# Altium footprint library Connectors.PcbLib: 15 footprints
Each footprint in its own frame and in the unit in brackets; x right, y up, seen from the top. Pads: shape width x height; smd on the part's side, far side on the other; paste and mask are expansions set on the pad; w line width, h text height; cw(c..) or ccw(c..) is an arc to the next point about the centre after c.
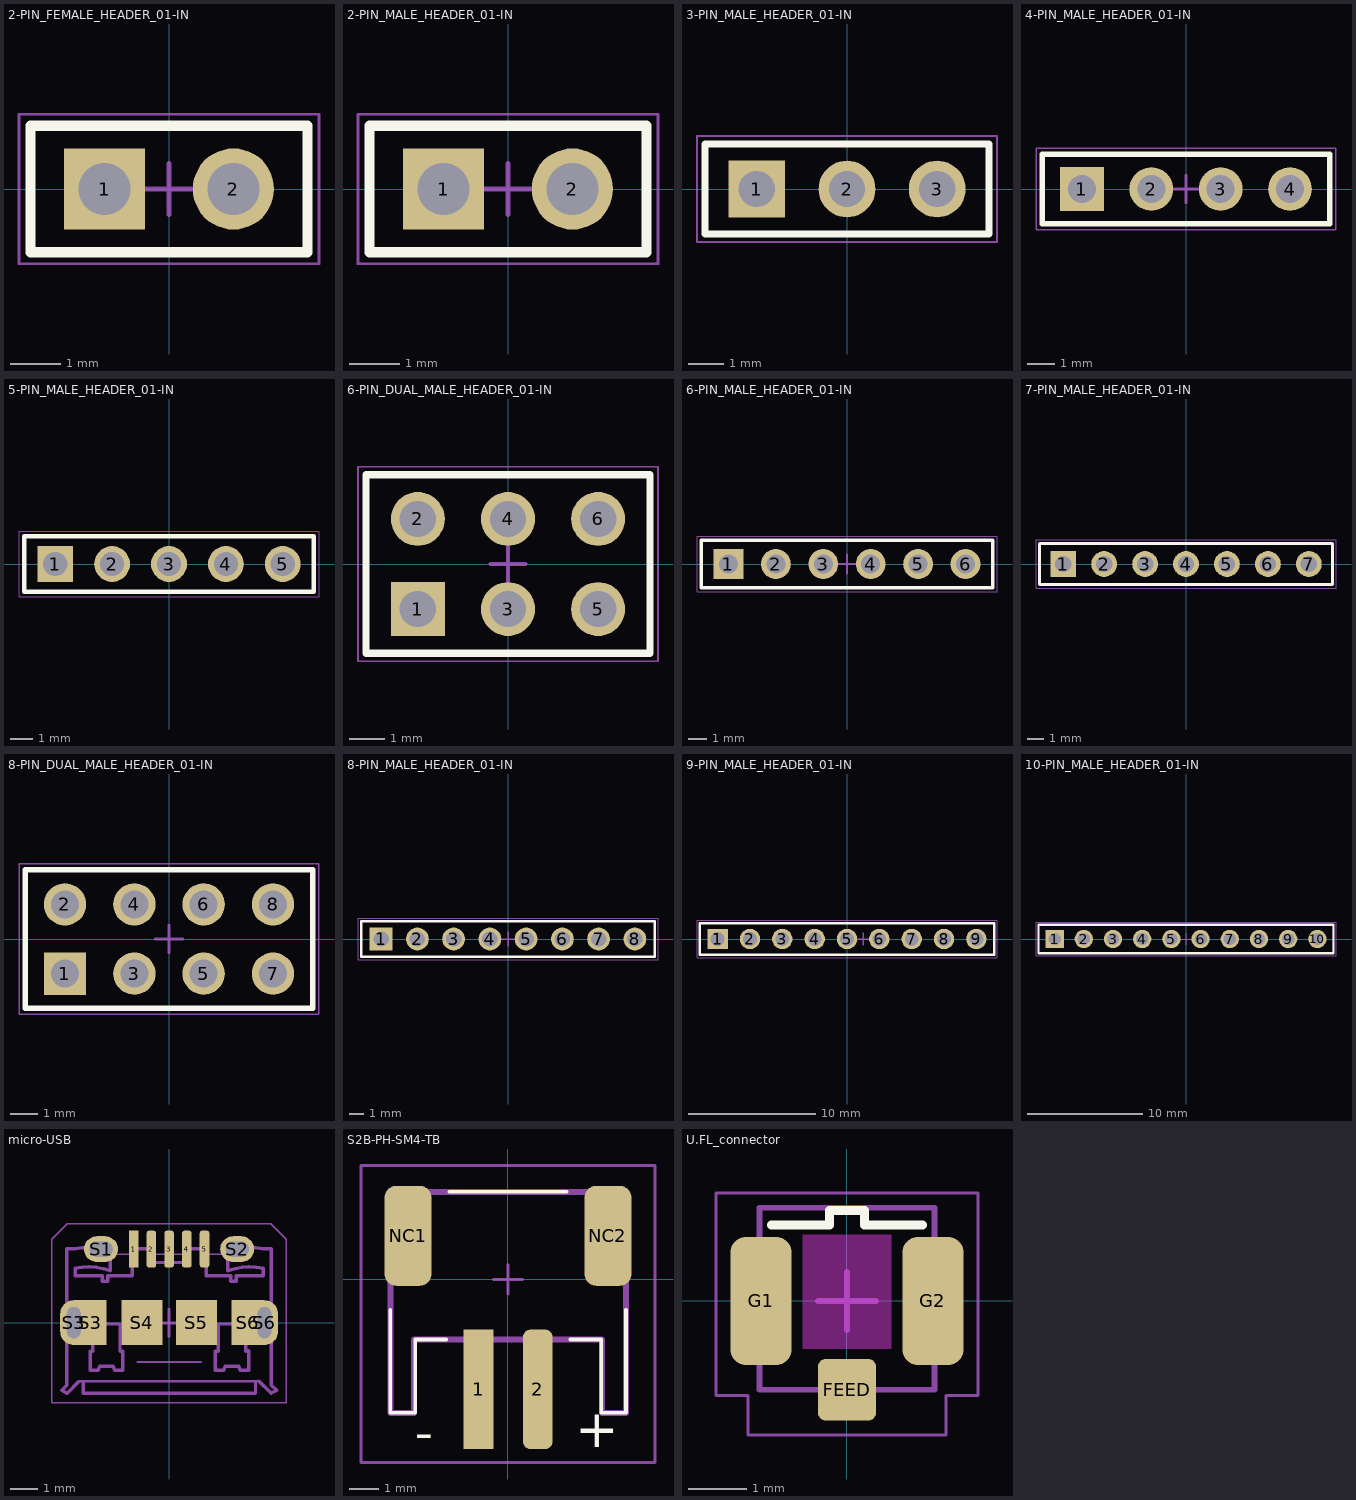
[diagram p0: the footprints below, top view; thin cyan lines are the x and y axes]

## 2-PIN_FEMALE_HEADER_01-IN [mm] "Terminal Assembly, 1x2 Pins, Vertical, 2.54mm Pitch, Male"
height 6.02
pads (2):
  rect 1.6x1.6 hole 1.02: 1(-1.27,0)
  round 1.6 hole 1.02: 2(1.27,0)
Top Overlay:
  lines w0.2: -2.73,-1.245 2.73,-1.245 2.73,1.245 -2.73,1.245 -2.73,-1.245
Mechanical 13:
  lines w0.1: -2.73,1.245 2.73,1.245 2.73,-1.245 -2.73,-1.245 -2.73,1.245
  text ".Designator" at -1.524,-0.635 h1.3
Mechanical 15:
  lines w0.05: -2.955,-1.47 2.955,-1.47 2.955,1.47 -2.955,1.47 -2.955,-1.47
  lines w0.1: -0.5,0 0.5,0 ; 0,-0.5 0,0.5
3D body "female_header_a-bl254-eg-g02d.STEP": height 8.53, standoff -3.17, extent -2.665,-1.25 2.665,1.25

## 2-PIN_MALE_HEADER_01-IN [mm] "Terminal Assembly, 1x2 Pins, Vertical, 2.54mm Pitch, Male"
height 6.02
pads (2):
  rect 1.6x1.6 hole 1.02: 1(-1.27,0)
  round 1.6 hole 1.02: 2(1.27,0)
Top Overlay:
  lines w0.2: -2.73,-1.245 -2.73,1.245 2.73,1.245 2.73,-1.245 -2.73,-1.245
Mechanical 13:
  lines w0.1: -2.73,1.245 -2.73,-1.245 2.73,-1.245 2.73,1.245 -2.73,1.245
  text ".Designator" at -1.524,-0.635 h1.3
Mechanical 15:
  lines w0.05: -2.955,-1.47 -2.955,1.47 2.955,1.47 2.955,-1.47 -2.955,-1.47
  lines w0.1: -0.5,0 0.5,0 ; 0,-0.5 0,0.5
3D body "User Library-Header_Male_2Pin.STEP": height 8.54, standoff -3, extent -2.54,-1.22 2.54,1.27

## 3-PIN_MALE_HEADER_01-IN [mm] ".025 SQ Post Terminal Strip Assembly, 1x3 Pins, Vertical, 2.54mm Pitch, Male"
height 8.58
pads (3):
  rect 1.6x1.6 hole 1.02: 1(-2.54,0)
  round 1.6 hole 1.02: 2(0,0) 3(2.54,0)
Top Overlay:
  lines w0.2: -4,-1.27 4,-1.27 4,1.27 -4,1.27 -4,-1.27
Mechanical 13:
  lines w0.1: -4,-1.27 4,-1.27 4,1.27 -4,1.27 -4,-1.27
  text ".Designator" at -1.524,-0.635 h1.3
Mechanical 15:
  lines w0.05: -4.225,-1.495 4.225,-1.495 4.225,1.495 -4.225,1.495 -4.225,-1.495
  lines w0.1: -0.5,0 0.5,0 ; 0,-0.5 0,0.5
3D body "User Library-Header_Male_3Pin.STEP": height 8.54, standoff -3, extent -3.81,-1.27 3.81,1.22

## 4-PIN_MALE_HEADER_01-IN [mm] "Assembly .025\" [.64] SQ Post Terminal Strip, 1x4 Pins, Vertical, 2.54mm Pitch, Male"
height 7.061
pads (4):
  rect 1.6x1.6 hole 1.02: 1(-3.81,0)
  round 1.6 hole 1.02: 2(-1.27,0) 3(1.27,0) 4(3.81,0)
Top Overlay:
  lines w0.2: -5.27,-1.27 5.27,-1.27 5.27,1.27 -5.27,1.27 -5.27,-1.27
Mechanical 13:
  lines w0.1: -5.27,-1.27 5.27,-1.27 5.27,1.27 -5.27,1.27 -5.27,-1.27
  text ".Designator" at -1.524,-0.635 h1.3
Mechanical 15:
  lines w0.05: -5.495,-1.495 5.495,-1.495 5.495,1.495 -5.495,1.495 -5.495,-1.495
  lines w0.1: -0.5,0 0.5,0 ; 0,-0.5 0,0.5
3D body "User Library-Header_Male_4Pin.STEP": height 8.54, standoff -3, extent -5.08,-1.27 5.08,1.22

## 5-PIN_MALE_HEADER_01-IN [mm] "Press Fit Socket Assembly, 1x5 Pins, Vertical, 2.54mm Pitch, Male"
height 10.92
pads (5):
  rect 1.6x1.6 hole 1.081: 1(-5.08,0)
  round 1.6 hole 1.081: 2(-2.54,0) 3(0,0) 4(2.54,0) 5(5.08,0)
Top Overlay:
  lines w0.2: -6.475,-1.245 -6.475,1.245 6.475,1.245 6.475,-1.245 -6.475,-1.245
Mechanical 13:
  lines w0.1: -6.475,-1.245 -6.475,1.245 6.475,1.245 6.475,-1.245 -6.475,-1.245
  text ".Designator" at -1.524,-0.635 h1.3
Mechanical 15:
  lines w0.05: -6.7,-1.47 -6.7,1.47 6.7,1.47 6.7,-1.47 -6.7,-1.47
  lines w0.1: -0.5,0 0.5,0 ; 0,-0.5 0,0.5
3D body "User Library-Header_Male_5Pin.STEP": height 8.54, standoff -3, extent -6.35,-1.27 6.35,1.22

## 6-PIN_DUAL_MALE_HEADER_01-IN [mm] "Terminal Assembly, 2x3 Pins, Vertical, 2.54mm Pitch, Male"
height 6.223
pads (6):
  rect 1.52x1.52 hole 1.02: 1(-2.54,-1.27)
  round 1.52 hole 1.02: 2(-2.54,1.27) 3(0,-1.27) 4(0,1.27) 5(2.54,-1.27) 6(2.54,1.27)
Top Overlay:
  lines w0.2: -4,-2.515 4,-2.515 4,2.515 -4,2.515 -4,-2.515
Mechanical 13:
  lines w0.1: -4,-2.515 -4,2.515 4,2.515 4,-2.515 -4,-2.515
  text ".Designator" at -1.524,-0.635 h1.3
Mechanical 15:
  lines w0.05: -4.225,-2.74 -4.225,2.74 4.225,2.74 4.225,-2.74 -4.225,-2.74
  lines w0.1: -0.5,0 0.5,0 ; 0,-0.5 0,0.5
3D body "pin_header_awl254-dg-g06d.stp": height 8.5, standoff -3, extent -3.81,-2.54 3.81,2.54

## 6-PIN_MALE_HEADER_01-IN [mm] "Assembly .025\" [.64] SQ Post Terminal Strip, 1x6 Pins, Vertical, 2.54mm Pitch, Male"
height 16.459
pads (6):
  rect 1.6x1.6 hole 1.02: 1(-6.35,0)
  round 1.6 hole 1.02: 2(-3.81,0) 3(-1.27,0) 4(1.27,0) 5(3.81,0) 6(6.35,0)
Top Overlay:
  lines w0.2: -7.81,-1.27 -7.81,1.27 7.81,1.27 7.81,-1.27 -7.81,-1.27
Mechanical 13:
  lines w0.1: -7.81,-1.27 -7.81,1.27 7.81,1.27 7.81,-1.27 -7.81,-1.27
  text ".Designator" at -1.524,-0.635 h1.3
Mechanical 15:
  lines w0.05: -8.035,-1.495 -8.035,1.495 8.035,1.495 8.035,-1.495 -8.035,-1.495
  lines w0.1: -0.5,0 0.5,0 ; 0,-0.5 0,0.5
3D body "User Library-Header_Male_6Pin.STEP": height 8.54, standoff -3, extent -7.62,-1.27 7.62,1.22

## 7-PIN_MALE_HEADER_01-IN [mm] ".025 SQ Post Terminal Strip Assembly, 1x7 Pins, Vertical, 2.54mm Pitch, Male"
height 5.41
pads (7):
  rect 1.6x1.6 hole 1.02: 1(-7.62,0)
  round 1.6 hole 1.02: 2(-5.08,0) 3(-2.54,0) 4(0,0) 5(2.54,0) 6(5.08,0) 7(7.62,0)
Top Overlay:
  lines w0.2: -9.08,-1.27 -9.08,1.27 9.08,1.27 9.08,-1.27 -9.08,-1.27
Mechanical 13:
  lines w0.1: -9.08,-1.27 -9.08,1.27 9.08,1.27 9.08,-1.27 -9.08,-1.27
  text ".Designator" at -1.524,-0.635 h1.3
Mechanical 15:
  lines w0.05: -9.305,-1.495 -9.305,1.495 9.305,1.495 9.305,-1.495 -9.305,-1.495
  lines w0.1: -0.5,0 0.5,0 ; 0,-0.5 0,0.5
3D body "User Library-Header_Male_7Pin.STEP": height 8.54, standoff -3, extent -8.89,-1.27 8.89,1.22

## 8-PIN_DUAL_MALE_HEADER_01-IN [mm] "Assembly .025\" [.64] SQ Post Terminal Strip, 2x4 Pins, Vertical, 2.54mm Pitch, Male"
height 2.896
pads (8):
  rect 1.55x1.55 hole 1.02: 1(-3.81,-1.27)
  round 1.55 hole 1.02: 2(-3.81,1.27) 3(-1.27,-1.27) 4(-1.27,1.27) 5(1.27,-1.27) 6(1.27,1.27) 7(3.81,-1.27) 8(3.81,1.27)
Top Overlay:
  lines w0.2: -5.27,-2.54 5.27,-2.54 5.27,2.54 -5.27,2.54 -5.27,-2.54
Mechanical 13:
  lines w0.1: -5.27,-2.54 5.27,-2.54 5.27,2.54 -5.27,2.54 -5.27,-2.54
  text ".Designator" at -1.524,-0.635 h1.3
Mechanical 15:
  lines w0.05: -5.495,-2.765 5.495,-2.765 5.495,2.765 -5.495,2.765 -5.495,-2.765
  lines w0.1: -0.5,0 0.5,0 ; 0,-0.5 0,0.5
3D body "pin_header_awl254-dg-g08d.stp": height 8.5, standoff -3, extent -5.08,-2.54 5.08,2.54

## 8-PIN_MALE_HEADER_01-IN [mm] "Press Fit Socket Assembly, 1x8 Pins, Vertical, 2.54mm Pitch, Male"
height 10.92
pads (8):
  rect 1.6x1.6 hole 1.081: 1(-8.89,0)
  round 1.6 hole 1.081: 2(-6.35,0) 3(-3.81,0) 4(-1.27,0) 5(1.27,0) 6(3.81,0) 7(6.35,0) 8(8.89,0)
Top Overlay:
  lines w0.2: -10.285,-1.245 10.285,-1.245 10.285,1.245 -10.285,1.245 -10.285,-1.245
Mechanical 13:
  lines w0.1: -10.285,-1.245 10.285,-1.245 10.285,1.245 -10.285,1.245 -10.285,-1.245
  text ".Designator" at -1.524,-0.635 h1.3
Mechanical 15:
  lines w0.05: -10.51,-1.47 10.51,-1.47 10.51,1.47 -10.51,1.47 -10.51,-1.47
  lines w0.1: -0.5,0 0.5,0 ; 0,-0.5 0,0.5
3D body "User Library-Header_Male_8Pin.STEP": height 8.54, standoff -3, extent -10.16,-1.27 10.16,1.22

## 9-PIN_MALE_HEADER_01-IN [mm] "Press Fit Socket Assembly, 1x10 Pins, Vertical, 2.54mm Pitch, Male"
height 16
pads (9):
  rect 1.6x1.6 hole 1.081: 1(-10.16,0)
  round 1.6 hole 1.081: 2(-7.62,0) 3(-5.08,0) 4(-2.54,0) 5(0,0) 6(2.54,0) 7(5.08,0) 8(7.62,0) 9(10.16,0)
Top Overlay:
  lines w0.2: -11.555,-1.245 -11.555,1.245 11.555,1.245 11.555,-1.245 -11.555,-1.245
Mechanical 13:
  lines w0.1: -11.555,-1.245 -11.555,1.245 11.555,1.245 11.555,-1.245 -11.555,-1.245
  text ".Designator" at -0.254,-0.635 h1.3
Mechanical 15:
  lines w0.05: -11.78,-1.47 -11.78,1.47 11.78,1.47 11.78,-1.47 -11.78,-1.47
  lines w0.1: 0.77,0 1.77,0 ; 1.27,-0.5 1.27,0.5
3D body "User Library-Header_Male_9Pin.STEP": height 8.54, standoff -3, extent -11.43,-1.27 11.43,1.22

## 10-PIN_MALE_HEADER_01-IN [mm] "Press Fit Socket Assembly, 1x10 Pins, Vertical, 2.54mm Pitch, Male"
height 16
pads (10):
  rect 1.6x1.6 hole 1.081: 1(-11.43,0)
  round 1.6 hole 1.081: 2(-8.89,0) 3(-6.35,0) 4(-3.81,0) 5(-1.27,0) 6(1.27,0) 7(3.81,0) 8(6.35,0) 9(8.89,0) 10(11.43,0)
Top Overlay:
  lines w0.2: -12.825,-1.245 12.825,-1.245 12.825,1.245 -12.825,1.245 -12.825,-1.245
Mechanical 13:
  lines w0.1: -12.825,-1.245 12.825,-1.245 12.825,1.245 -12.825,1.245 -12.825,-1.245
  text ".Designator" at -1.524,-0.635 h1.3
Mechanical 15:
  lines w0.05: -13.05,-1.47 13.05,-1.47 13.05,1.47 -13.05,1.47 -13.05,-1.47
  lines w0.1: -0.5,0 0.5,0 ; 0,-0.5 0,0.5
3D body "User Library-Header_Male_10Pin.STEP": height 8.54, standoff -3, extent -12.7,-1.27 12.7,1.22

## micro-USB [mm] "microUSB paste-in-pad"
height 3
pads (13):
  rect 0.35x1.35 smd mask+0.05: 1(-1.3,2.7)
  rrect50% 0.35x1.35 smd mask+0.05: 2(-0.65,2.7) 3(0,2.7) 4(0.65,2.7) 5(1.3,2.7)
  oval 1.25x0.95 hole 0.55 slot 0.85 at 0 deg mask+0.076: S1(-2.5,2.7) S2(2.5,2.7)
  rrect100% 1x1.65 hole 0.5 slot 1.15 at 90 deg mask+0.076: S3(-3.5,0) S6(3.5,0)
  rect 1.2x1.65 smd mask+0.076: S3(-2.896,0) S6(2.896,0)
  rect 1.5x1.65 smd mask+0.076: S4(-1,0) S5(1,0)
Top Paste:
  region: -3,0.325 -2.993,0.432 -3.061,0.635 -3.201,0.797 -3.393,0.893 -3.5,0.9 -3.614,0.9 -3.826,0.812 -3.987,0.651 -4.075,0.439 -4.075,0.325 -4.075,-0.325 -4.075,-0.439 -3.987,-0.651 -3.826,-0.812 -3.614,-0.9 -3.5,-0.9 -3.393,-0.893 -3.201,-0.797 -3.061,-0.635 -2.993,-0.432 -3,-0.325
  region: -3.2,2.675 -3.2,2.725 -3.2,2.829 -3.12,3.022 -2.972,3.17 -2.779,3.25 -2.675,3.25 -2.325,3.25 -2.221,3.25 -2.028,3.17 -1.88,3.022 -1.8,2.829 -1.8,2.725 -1.8,2.675 -1.8,2.571 -1.88,2.378 -2.028,2.23 -2.221,2.15 -2.325,2.15 -2.675,2.15 -2.779,2.15 -2.972,2.23 -3.12,2.378 -3.2,2.571
  region: 1.8,2.675 1.8,2.725 1.8,2.829 1.88,3.022 2.028,3.17 2.221,3.25 2.325,3.25 2.675,3.25 2.779,3.25 2.972,3.17 3.12,3.022 3.2,2.829 3.2,2.725 3.2,2.675 3.2,2.571 3.12,2.378 2.972,2.23 2.779,2.15 2.675,2.15 2.325,2.15 2.221,2.15 2.028,2.23 1.88,2.378 1.8,2.571
  region: 3,-0.325 2.993,-0.432 3.061,-0.635 3.201,-0.797 3.393,-0.893 3.5,-0.9 3.614,-0.9 3.826,-0.812 3.987,-0.651 4.075,-0.439 4.075,-0.325 4.075,0.325 4.075,0.439 3.987,0.651 3.826,0.812 3.614,0.9 3.5,0.9 3.393,0.893 3.201,0.797 3.061,0.635 2.993,0.432 3,0.325
Mechanical 13:
  lines w0.051: -2.153,2.513 -1.353,2.513 ; -0.653,2.513 0.658,2.513 ; 1.369,2.513 2.156,2.513
  lines w0.076: -1.153,-1.45 1.166,-1.45
  lines w0.102: -3.3,-2.15 3.3,-2.15
  lines w0.127: -3.314,-2.161 -3.744,-2.591 -3.944,-2.491 -3.753,-2.3 -3.753,2.716 -3.453,2.716 cw(c-2.992,0.239) -2.153,2.614 -2.153,2.513 -2.153,1.903 ccw(c-2.992,-0.472) -3.453,2.005 -3.453,1.725 -2.453,1.725 -2.453,1.522 -2.253,1.522 -2.253,1.725 -1.353,1.725 -1.353,2.513 -1.353,2.716 -0.653,2.716 -0.653,2.513 -0.653,2.208 0.658,2.208 0.658,2.513 0.658,2.716 1.369,2.716 1.369,2.513 1.369,1.725 2.258,1.725 2.258,1.522 2.461,1.522 2.461,1.725 3.452,1.725 3.452,2.005 ccw(c2.994,-0.464) 2.156,1.903 2.156,2.513 2.156,2.614 cw(c2.994,0.248) 3.452,2.716 3.75,2.716 3.75,-2.293 3.949,-2.489 3.745,-2.589 3.3,-2.15 ; -3.153,-2.175 -3.153,-2.6 3.172,-2.6 3.172,-2.175 ; 2.817,-1.05 2.817,-0.05 1.801,-0.05 1.801,-1.05 1.699,-1.05 1.699,-1.75 2.004,-1.75 2.055,-1.6 2.563,-1.6 2.614,-1.75 2.918,-1.75 2.918,-1.05 ; 2.817,-1.025 2.918,-1.025 ; -2.903,-1.75 -2.903,-1.05 -2.803,-1.05 -2.803,-0.05 -1.803,-0.05 -1.803,-1.05 -1.703,-1.05 -1.703,-1.75 -2.003,-1.75 -2.053,-1.6 -2.553,-1.6 -2.603,-1.75 -2.903,-1.75
  text "pcb edge" at -1.125,-1.35 h0.63
  text ".Designator" at -1.4,0.1 h1.1
Mechanical 15:
  lines w0.05: -4.3,-2.95 4.3,-2.95 4.3,3.066 3.741,3.625 -3.741,3.625 -4.3,3.066 -4.3,-2.95
  lines w0.1: -0.5,-0.012 0.5,-0.012 ; 0,-0.512 0,0.488
3D body "User Library-MicroUSB-B_Molex_105017-0001.step": height 2.71, standoff -0.6, extent -4.102,-2.58 4.098,2.85

## S2B-PH-SM4-TB [mil]
pads (4):
  rect 40x160 smd: 1(-39.44,-147.2)
  rrect50% 40x160 smd: 2(39.93,-147.2)
  rrect50% 63x134 smd: NC1(-133.93,58.46) NC2(133.93,58.46)
Top Overlay:
  lines w5: -157.55,-40.43 -157.55,-178.7 -124.09,-178.7 -124.09,-80.28 -82.68,-80.28 ; -78.74,117.46 78.74,117.46 ; 83.52,-80.28 124.93,-80.28 124.93,-178.7 157.93,-178.7 157.93,-40.43
  text "-" at -125,-245 h86.8
  text "+" at 89.93,-241.54 h86.8
Mechanical 13:
  lines w8: -157.55,-178.7 -126.06,-178.7 -126.06,-80.28 125.93,-80.28 125.93,-178.7 157.93,-178.7 157.93,117.46 -157.55,117.46 -157.55,-178.7
  text ".Designator" at -115,-10 h66.93
Mechanical 15:
  lines w3.94: -19.69,0 19.68,0 ; 0,-19.68 0,19.69 ; -196.85,-245 -196.85,152.48 196.85,152.48 196.85,-245 -196.85,-245
3D body "S2B-PH-SM4-TB.STEP": height 219.54, standoff -0.94, extent -156.09,-215.83 154.93,122.76

## U.FL_connector [mm]
pads (3):
  rrect25% 1x1.05 smd: FEED(0,-1.525)
  rrect50% 1.05x2.2 smd: G1(-1.475,0) G2(1.475,0)
Top Layer keep-out:
  region: -0.762,-0.819 0.762,-0.819 0.762,1.137 -0.762,1.137
Top Overlay:
  lines w0.152: -1.3,1.303 -0.3,1.303 -0.3,1.553 0.3,1.553 0.3,1.303 1.3,1.303
Mechanical 13:
  lines w0.1: -1.5,-1.525 -1.5,1.6 1.5,1.6 1.5,-1.525 -1.5,-1.525
Mechanical 15:
  lines w0.05: -2.25,-1.625 -2.25,1.85 2.25,1.85 2.25,-1.625 1.7,-1.625 1.7,-2.3 -1.7,-2.3 -1.7,-1.625 -2.25,-1.625
  lines w0.1: -0.5,0 0.5,0 ; 0,-0.5 0,0.5
Mechanical 29:
  lines w0.1: -1.5,-1.525 1.5,-1.525 1.5,1.6 -1.5,1.6 -1.5,-1.525
  text ".Designator" at -0.85,-0.2 h0.5
3D body "User Library-U_FL-R-SMT-1.step": height 1.25, standoff -0.01, extent -1.5,-1.513 1.5,1.587